# EAGLE library part MCP1640 (library ukhas)
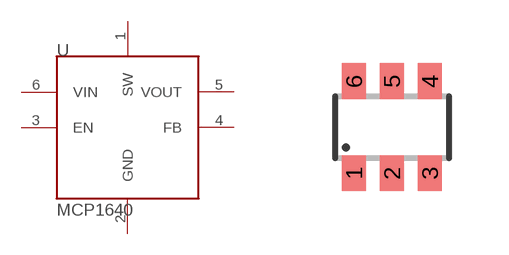
[diagram p1: symbol with the pads of SOT23-6; footprint SOT23-6]

Designator prefix -

## MCP1640  [SOT23-6]
1  SW  in
2  GND  sup
3  EN  in
4  FB  in
5  VOUT  out
6  VIN  sup

## Footprint SOT23-6 (pad centres in mm)
Small Outline Transistor 6 lead
smd 0.6 x 0.9: 1 -0.95,-1.15; 2 0,-1.15; 3 0.95,-1.15; 4 0.95,1.15; 5 0,1.15; 6 -0.95,1.15